# Altium schematic symbol library RQ73C1E2K67BTD.SchLib: 1 symbol
Pins are listed as number, name and electrical type; pins without a type are passive.

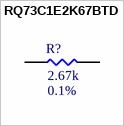
[diagram p0: symbol RQ73C1E2K67BTD]

## RQ73C1E2K67BTD
designator R?  Resistance: 2.67k  Tolerance: 0.1%  (hidden comment: RQ73C1E2K67BTD)
RES 2.67 KOHMS 0.1% 1/16W 0402; MFR: TE Connectivity Passive Product; PN: RQ73C1E2K67BTD; Footprint: RES0402; Package: 0402; ComponentLink1Description: Datasheet; ComponentLink1URL: https://media.digikey.com/pdf/Data%20Sheets/Tyco%20Electronics%20P%20B%20PDFs/RQ73-0618%20v2.pdf; Power Rating: 1/16W; Supplier 1: Digi-Key; Supplier Part Number 1: A140566CT-ND
footprint RES0402 (Generic 0402 PCB Footprint)
pins: 1, 2